# EAGLE library part KX14-80K2DE (library con-jae)
SOCKET, VERTICAL, 0.8MM, 80WAY
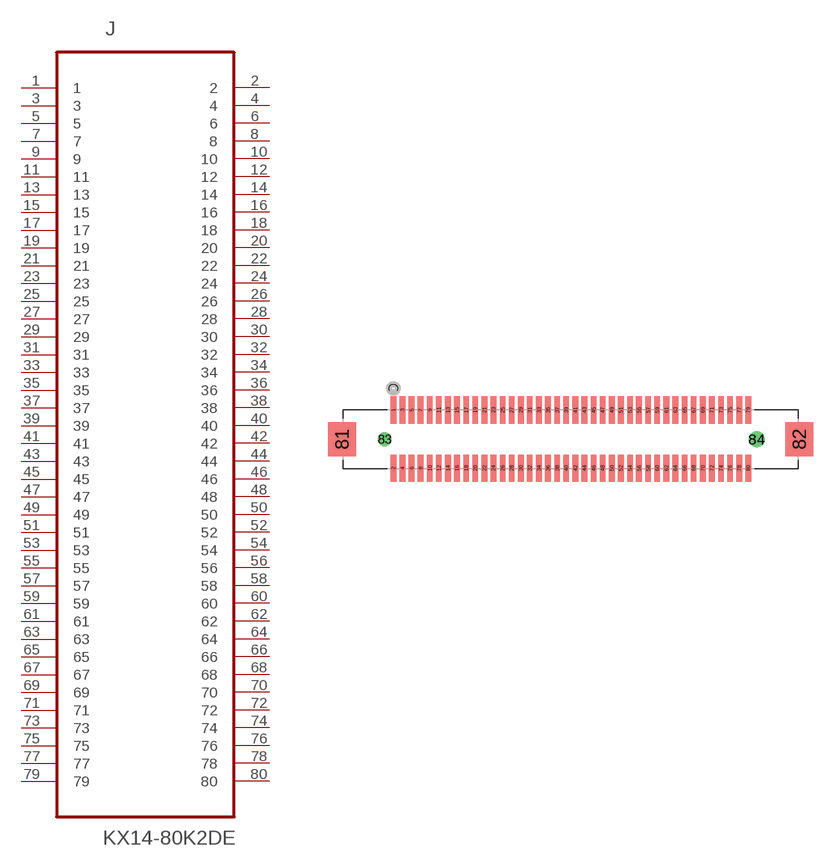
[diagram p3: symbol with the pads of JAE_KX14-80K2DE; footprint JAE_KX14-80K2DE]

Designator prefix J

## KX14-80K2DE (DATASHEETLINK: http://www.jae.com/z-en/pdf_download_exec.cfm?param=SJ037995.pdf; DESCRIPTION: SOCKET, VERTICAL, 0.8MM,80WAY; MPN: KX14-80K2DE; OC_FARNELL: 1519655; OC_NEWARK: 74M2551; ROHS: Yes; SUPPLIER: JAE)  [JAE_KX14-80K2DE]
1  1  pas
2  2  pas
3  3  pas
4  4  pas
5  5  pas
6  6  pas
7  7  pas
8  8  pas
9  9  pas
10  10  pas
11  11  pas
12  12  pas
13  13  pas
14  14  pas
15  15  pas
16  16  pas
17  17  pas
18  18  pas
19  19  pas
20  20  pas
21  21  pas
22  22  pas
23  23  pas
24  24  pas
25  25  pas
26  26  pas
27  27  pas
28  28  pas
29  29  pas
30  30  pas
31  31  pas
32  32  pas
33  33  pas
34  34  pas
35  35  pas
36  36  pas
37  37  pas
38  38  pas
39  39  pas
40  40  pas
41  41  pas
42  42  pas
43  43  pas
44  44  pas
45  45  pas
46  46  pas
47  47  pas
48  48  pas
49  49  pas
50  50  pas
51  51  pas
52  52  pas
53  53  pas
54  54  pas
55  55  pas
56  56  pas
57  57  pas
58  58  pas
59  59  pas
60  60  pas
61  61  pas
62  62  pas
63  63  pas
64  64  pas
65  65  pas
66  66  pas
67  67  pas
68  68  pas
69  69  pas
70  70  pas
71  71  pas
72  72  pas
73  73  pas
74  74  pas
75  75  pas
76  76  pas
77  77  pas
78  78  pas
79  79  pas
80  80  pas

## Footprint JAE_KX14-80K2DE (pad centres in mm)
smd 0.508 x 2.388: 1 -31.191,5.105; 2 -31.191,0; 3 -30.404,5.105; 4 -30.404,0; 5 -29.591,5.105; 6 -29.591,0; 7 -28.804,5.105; 8 -28.804,0; 9 -27.991,5.105; 10 -27.991,0; 11 -27.203,5.105; 12 -27.203,0; 13 -26.391,5.105; 14 -26.391,0; 15 -25.603,5.105; 16 -25.603,0; 17 -24.79,5.105; 18 -24.79,0; 19 -24.003,5.105; 20 -24.003,0; 21 -23.19,5.105; 22 -23.19,0; 23 -22.403,5.105; 24 -22.403,0; 25 -21.59,5.105; 26 -21.59,0; 27 -20.803,5.105; 28 -20.803,0; 29 -19.99,5.105; 30 -19.99,0; 31 -19.202,5.105; 32 -19.202,0; 33 -18.39,5.105; 34 -18.39,0; 35 -17.602,5.105; 36 -17.602,0; 37 -16.789,5.105; 38 -16.789,0; 39 -16.002,5.105; 40 -16.002,0; 41 -15.189,5.105; 42 -15.189,0; 43 -14.402,5.105; 44 -14.402,0; 45 -13.589,5.105; 46 -13.589,0; 47 -12.802,5.105; 48 -12.802,0; 49 -11.989,5.105; 50 -11.989,0; 51 -11.201,5.105; 52 -11.201,0; 53 -10.389,5.105; 54 -10.389,0; 55 -9.601,5.105; 56 -9.601,0; 57 -8.788,5.105; 58 -8.788,0; 59 -8.001,5.105; 60 -8.001,0; 61 -7.188,5.105; 62 -7.188,0; 63 -6.401,5.105; 64 -6.401,0; 65 -5.588,5.105; 66 -5.588,0; 67 -4.801,5.105; 68 -4.801,0; 69 -3.988,5.105; 70 -3.988,0; 71 -3.2,5.105; 72 -3.2,0; 73 -2.388,5.105; 74 -2.388,0; 75 -1.6,5.105; 76 -1.6,0; 77 -0.787,5.105; 78 -0.787,0; 79 0,5.105; 80 0,0
smd 2.489 x 2.997: 81 -35.712,2.54; 82 4.496,2.54
drill 0.711: 83 -31.953,2.54
drill 0.889: 84 0.762,2.54